# Altium schematic symbol library RT6285GSP.Schlib: 1 symbol
Pins are listed as number, name and electrical type; pins without a type are passive.

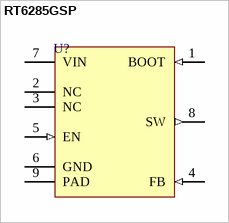
[diagram p0: symbol RT6285GSP]

## RT6285GSP
designator U?
pins: 1 BOOT (in), 2 NC, 3 NC, 4 FB (in), 5 EN (in), 6 GND (power), 7 VIN (power), 8 SW (out), 9 PAD (power)